# Altium schematic symbol library distance_sensor_v2.SchLib: 18 symbols
Pins are listed as number, name and electrical type; pins without a type are passive.

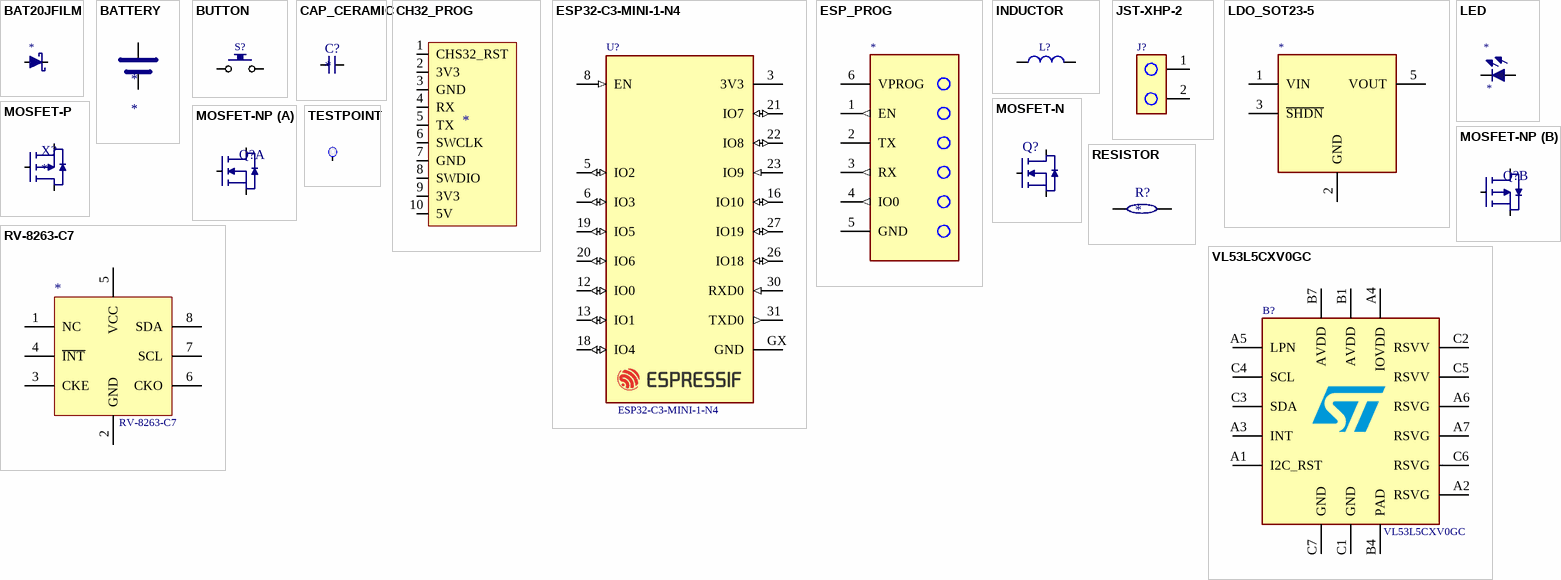
[diagram p0: symbols BAT20JFILM to VL53L5CXV0GC]

## BAT20JFILM
designator *  (value not drawn)
Schottky Diode 20v 500mA
footprint SODFL250X100-2L (SODFL, 2-Leads, Body 1.25x2.50mm, IPC High Density)
pins: 1 C, 2 A

## BATTERY
designator *  (no BOM)
footprint PP002055 (3 x AA Battery Holder)
pins: VNEG - (power), VPOS + (power)

## BUTTON
designator S?, comment 4-1437565-1  (value not drawn)
6x6mm tactile switch SPST_NO; Manufacturer_Name: TE Connectivity; Allied_Number: R1117787; RS Part Number: 1616046; Manufacturer_Part_Number: 4-1437565-1; Datasheet Link: http://uk.rs-online.com/web/p/products/1616046
footprint FSM-SWITCH
pins: 1, 2

## CAP_CERAMIC
designator C?
MLCC; Value: *; LCSC Part Number: *; Tolerance: *; Voltage: *; Package: *; Dielectric: *
footprint CAP 0805_2012 (Chip Capacitor, 2-Leads, Body 2.00x1.20mm, IPC Medium Density)
footprint CAP 0603_1608 (Chip Capacitor, 2-Leads, Body 1.60x0.80mm, IPC Medium Density)
footprint CAP 1210_3225 (Chip Capacitor, 2-Leads, Body 3.20x1.60mm, IPC High Density)
pins: 1 A, 2 B

## CH32_PROG
designator *  (value not drawn)  (no BOM)
footprint CH32_PROG
pins: 1 CHS32_RST, 2 3V3, 3 GND, 4 RX, 5 TX, 6 SWCLK, 7 GND, 8 SWDIO, 9 3V3, 10 5V

## ESP32-C3-MINI-1-N4
designator U?
Wifi module ESP32-C3; MF: Espressif Systems; SnapEDA_Link: https://www.snapeda.com/parts/ESP32-C3-MINI-1-N4/Espressif+Systems/view-part/?ref=snap; Package: SMD-53 Espressif Systems; MPN: ESP32-C3-MINI-1-N4; Check_prices: https://www.snapeda.com/parts/ESP32-C3-MINI-1-N4/Espressif+Systems/view-part/?ref=eda; Purchase-URL: https://pricing.snapeda.com/search/part/ESP32-C3-MINI-1-N4/?ref=eda; Price: None; Value: *; Availability: In Stock
footprint XCVR_ESP32-C3-MINI-1-N4
pins: 3 3V3 (power), 5 IO2 (io), 6 IO3 (io), 8 EN (in), 12 IO0 (io), 13 IO1 (io), 16 IO10 (io), 18 IO4 (io), 19 IO5 (io), 20 IO6 (io), 21 IO7 (io), 22 IO8 (io), 23 IO9 (in), 26 IO18 (io), 27 IO19 (io), 30 RXD0 (in), 31 TXD0 (out), GX GND

## ESP_PROG
designator *  (value not drawn)  (no BOM)
footprint IDC3X2
pins: 1 EN (out), 2 TX, 3 RX (out), 4 IO0 (out), 5 GND, 6 VPROG

## INDUCTOR
designator L?  (value not drawn)
Inductor; MPN: 744313330; Vendor: Wurth Elektronik; RefDes: RefDes; TYPE: TYPE; Value: Value
footprint INDUCTOR_0603
pins: 1, 2

## JST-XHP-2
designator J?  (value not drawn)
footprint JST-XHP-2
pins: 1, 2

## LDO_SOT23-5
designator *
footprint SOT23-5 (SOT23, 5-Leads, Body 3.00x2.75mm, Pitch 0.95mm, IPC Medium Density)
pins: 1 VIN, 2 GND, 3 ~{SHDN}, 5 VOUT

## LED
designator *
LED; Value: *; LCSC Part Number: *
footprint SMT_LED 0603_RED (Chip Diode, 2-Leads, Body 1.60x0.80mm, IPC Medium Density)
footprint LED 5mm through hole (5MM through hole LED)
pins: 1 ANODE "TP", 2 CATHODE "TP"

## MOSFET-N
designator Q?  (value not drawn)
N Channel MOSFET. 300mA
footprint SOT95P230X110-3L (SOT23, 3-Leads, Body 2.90x2.30mm, Pitch 0.95mm, IPC High Density)
pins: 1 G, 2 S, 3 D

## MOSFET-NP
designator Q?  (value not drawn)
N/P Channel MOSFET; Manufacturer Part Number: DMC2400UV-13; LCSC Part Number: C500791
footprint DMG6601LVT; pin to pad D1>6 D2>4 G1>1 G2>3 S1>5 S2>2
part A pins: D1 D, G1 G, S1 S
part B pins: D2 D, G2 G, S2 S

## MOSFET-P
designator X?
P Channel MOSFET. 300mA; Manufacturer Part Number: DMP3099L-13; LCSC Part Number: C412516
footprint SOT95P230X110-3L (SOT23, 3-Leads, Body 2.90x2.30mm, Pitch 0.95mm, IPC High Density)
pins: 1 G, 2 S, 3 D

## RESISTOR
designator R?
Resistor; Value: *; LCSC Part Number: *; Tolerance: *; Package: *; Power: *
footprint RES 0603_1608 (Chip Resistor, 2-Leads, Body 1.60x0.80mm, IPC Medium Density)
pins: 1 A, 2 B

## RV-8263-C7
designator *
Real-Time Clock Module; MPN: RV-8263-C7
footprint RV-8263-C7 (Real-Time Clock Module)
pins: 1 NC, 2 GND, 3 CKE, 4 ~{INT}, 5 VCC, 6 CKO, 7 SCL, 8 SDA

## TESTPOINT
designator TP?  (value not drawn)  (no BOM)
TestID: ???
footprint TESTPOINT
footprint TESTPAD
footprint TESTPOINT_SMALL
pins: 1 TP

## VL53L5CXV0GC
designator B?
TOF distance sensor; Manufacturer_Name: STMicroelectronics; Manufacturer_Part_Number: VL53L5CXV0GC/1; Geometry.Height: 1.55mm; Mouser Part Number: 511-VL53L5CXV0GC/1; Mouser Price/Stock: https://www.mouser.co.uk/ProductDetail/STMicroelectronics/VL53L5CXV0GC-1?qs=QNEnbhJQKvZPmRJw6ASPyw%3D%3D; Arrow Part Number: VL53L5CXV0GC/1; Arrow Price/Stock: https://www.arrow.com/en/products/vl53l5cxv0gc1/stmicroelectronics?region=nac; Datasheet Link: https://www.arrow.com/en/products/vl53l5cxv0gc1/stmicroelectronics?region=nac; MPN: VL53L5CXV0GC
footprint VL53L5CXV0GC1
pins: A1 I2C_RST, A2 RSVG, A3 INT, A4 IOVDD, A5 LPN, A6 RSVG, A7 RSVG, B1 AVDD, B4 PAD, B7 AVDD, C1 GND, C2 RSVV, C3 SDA, C4 SCL, C5 RSVV, C6 RSVG, C7 GND